# Altium schematic symbol library C0805C103K1RAC7210.SchLib: 2 symbols
Pins are listed as number, name and electrical type; pins without a type are passive.

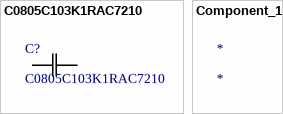
[diagram p0: symbols C0805C103K1RAC7210 to Component_1]

## C0805C103K1RAC7210
designator C?
CAP CER SMD 0805 .01UF 100V X7R; Mfr_Name: Kemet; Type: DEV; Copyright: Copyright (C) 2023 Ultra Librarian. All rights reserved.; Manufacturer_Part_Number: C0805C103K1RAC7210; RefDes: RefDes
footprint CAPC220145_88N_KEM
pins: 1, 2

## Component_1
designator *